# EAGLE library part ETX-X2 (library etx-board)
ISA Bus ETX Board Connector 100 Pos. Source: www.kontron.com/techlib/whitepapers/etx_spec.pdf
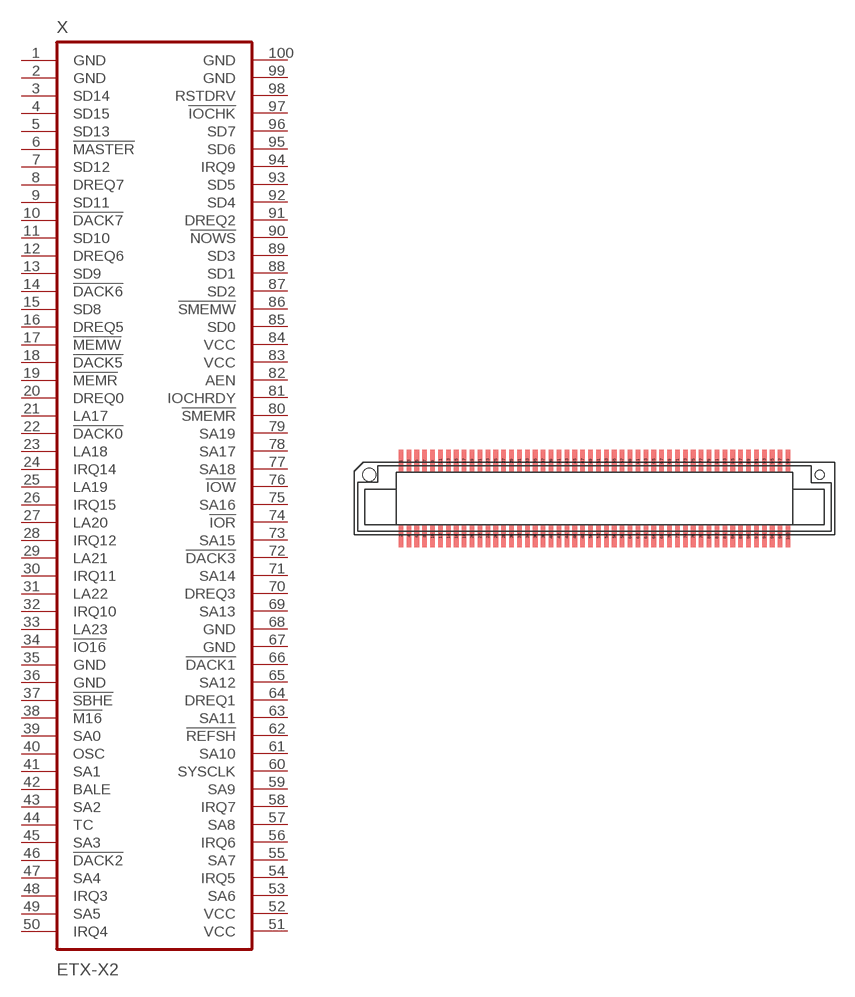
[diagram p3: symbol with the pads of FX8-100S-SV; footprint FX8-100S-SV]

Designator prefix X

## ETX-X2  [FX8-100S-SV]
1  GND  pwr
2  GND  pwr
3  SD14
4  SD15
5  SD13
6  !MASTER
7  SD12
8  DREQ7
9  SD11
10  !DACK7
11  SD10
12  DREQ6
13  SD9
14  !DACK6
15  SD8
16  DREQ5
17  !MEMW
18  !DACK5
19  !MEMR
20  DREQ0
21  LA17
22  !DACK0
23  LA18
24  IRQ14
25  LA19
26  IRQ15
27  LA20
28  IRQ12
29  LA21
30  IRQ11
31  LA22
32  IRQ10
33  LA23
34  !IO16
35  GND  pwr
36  GND  pwr
37  !SBHE
38  !M16
39  SA0
40  OSC
41  SA1
42  BALE
43  SA2
44  TC
45  SA3
46  !DACK2
47  SA4
48  IRQ3
49  SA5
50  IRQ4
51  VCC  pwr
52  VCC  pwr
53  SA6
54  IRQ5
55  SA7
56  IRQ6
57  SA8
58  IRQ7
59  SA9
60  SYSCLK
61  SA10
62  !REFSH
63  SA11
64  DREQ1
65  SA12
66  !DACK1
67  GND  pwr
68  GND  pwr
69  SA13
70  DREQ3
71  SA14
72  !DACK3
73  SA15
74  !IOR
75  SA16
76  !IOW
77  SA18
78  SA17
79  SA19
80  !SMEMR
81  IOCHRDY
82  AEN
83  VCC  pwr
84  VCC  pwr
85  SD0
86  !SMEMW
87  SD2
88  SD1
89  SD3
90  !NOWS
91  DREQ2
92  SD4
93  SD5
94  IRQ9
95  SD6
96  SD7
97  !IOCHK
98  RSTDRV
99  GND  pwr
100  GND  pwr

## Footprint FX8-100S-SV (pad centres in mm)
HIROSE - ETX Board Connector 100 Pos. Source: www.hirose.co.jp/cataloge_hp/e57800016.pdf www.kontron.com/techlib/whitepapers/etx_spec.pdf
smd 0.35 x 1.7: 1 -14.7,2.85; 2 -14.7,-2.85; 3 -14.1,2.85; 4 -14.1,-2.85; 5 -13.5,2.85; 6 -13.5,-2.85; 7 -12.9,2.85; 8 -12.9,-2.85; 9 -12.3,2.85; 10 -12.3,-2.85; 11 -11.7,2.85; 12 -11.7,-2.85; 13 -11.1,2.85; 14 -11.1,-2.85; 15 -10.5,2.85; 16 -10.5,-2.85; 17 -9.9,2.85; 18 -9.9,-2.85; 19 -9.3,2.85; 20 -9.3,-2.85; 21 -8.7,2.85; 22 -8.7,-2.85; 23 -8.1,2.85; 24 -8.1,-2.85; 25 -7.5,2.85; 26 -7.5,-2.85; 27 -6.9,2.85; 28 -6.9,-2.85; 29 -6.3,2.85; 30 -6.3,-2.85; 31 -5.7,2.85; 32 -5.7,-2.85; 33 -5.1,2.85; 34 -5.1,-2.85; 35 -4.5,2.85; 36 -4.5,-2.85; 37 -3.9,2.85; 38 -3.9,-2.85; 39 -3.3,2.85; 40 -3.3,-2.85; 41 -2.7,2.85; 42 -2.7,-2.85; 43 -2.1,2.85; 44 -2.1,-2.85; 45 -1.5,2.85; 46 -1.5,-2.85; 47 -0.9,2.85; 48 -0.9,-2.85; 49 -0.3,2.85; 50 -0.3,-2.85; 51 0.3,2.85; 52 0.3,-2.85; 53 0.9,2.85; 54 0.9,-2.85; 55 1.5,2.85; 56 1.5,-2.85; 57 2.1,2.85; 58 2.1,-2.85; 59 2.7,2.85; 60 2.7,-2.85; 61 3.3,2.85; 62 3.3,-2.85; 63 3.9,2.85; 64 3.9,-2.85; 65 4.5,2.85; 66 4.5,-2.85; 67 5.1,2.85; 68 5.1,-2.85; 69 5.7,2.85; 70 5.7,-2.85; 71 6.3,2.85; 72 6.3,-2.85; 73 6.9,2.85; 74 6.9,-2.85; 75 7.5,2.85; 76 7.5,-2.85; 77 8.1,2.85; 78 8.1,-2.85; 79 8.7,2.85; 80 8.7,-2.85; 81 9.3,2.85; 82 9.3,-2.85; 83 9.9,2.85; 84 9.9,-2.85; 85 10.5,2.85; 86 10.5,-2.85; 87 11.1,2.85; 88 11.1,-2.85; 89 11.7,2.85; 90 11.7,-2.85; 91 12.3,2.85; 92 12.3,-2.85; 93 12.9,2.85; 94 12.9,-2.85; 95 13.5,2.85; 96 13.5,-2.85; 97 14.1,2.85; 98 14.1,-2.85; 99 14.7,2.85; 100 14.7,-2.85
hole 1 at -17.1,1.8
hole 0.7 at 17.1,1.8